# Altium integrated library bourns.IntLib: 3 symbols
Pins are listed as number, name and electrical type; pins without a type are passive.

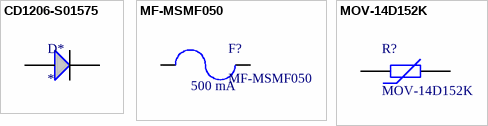
[diagram p0: symbols CD1206-S01575 to MOV-14D152K]

## CD1206-S01575
designator D*
CD1206-S01575
footprint Model Name (Footprint not found)
footprint CD1206-S01575 (Diode)
pins: 1, 2

## MF-MSMF050
designator F?  value 500 mA
500 mA Fuse
footprint MF-MSMF050 (500 mA Fuse)
pins: 1, 2

## MOV-14D152K
designator R?
VARISTOR 1200V 4.5KA DISC 14MM; Published: 24-Mar-1999; LatestRevisionDate: 29-May-2009; LatestRevisionNote: IPC-7351 Footprint Added.; PackageVersion: Mar-2003; PackageReference: 6-0805; Publisher: Altium Limited; PackageDescription: Chip Resistor 0805 Case Size; Code_IPC: RESC2012
footprint MOV-14D152K
pins: 1, 2